# Altium footprint library APB3025ESGC-F01.PcbLib: 1 footprints
Each footprint in its own frame and in the unit in brackets; x right, y up, seen from the top. Pads: shape width x height; smd on the part's side, far side on the other; paste and mask are expansions set on the pad; w line width, h text height; cw(c..) or ccw(c..) is an arc to the next point about the centre after c.
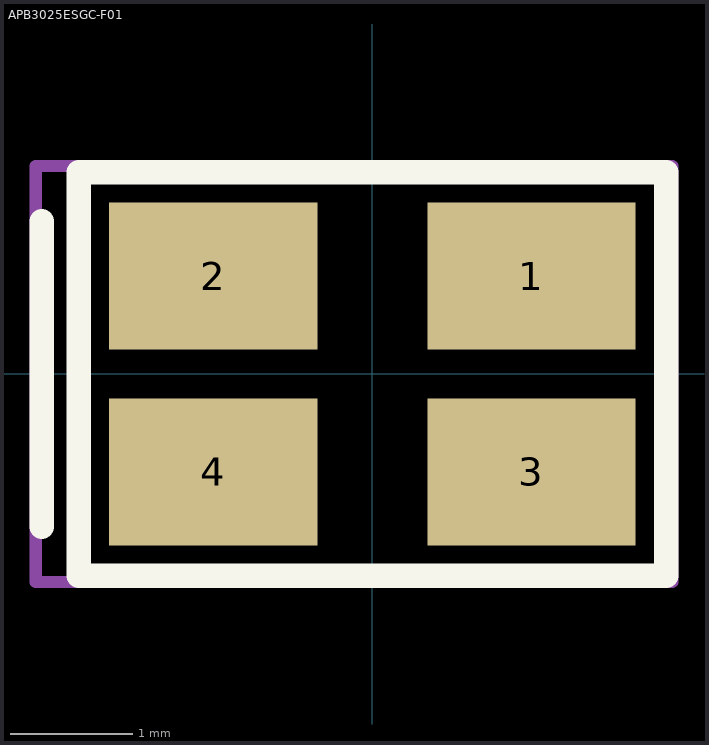
[diagram p0: the footprint, top view; thin cyan lines are the x and y axes]

## APB3025ESGC-F01 [mm]
pads (4):
  rect 1.7x1.2 smd: 1(1.3,0.8) 2(-1.3,0.8) 3(1.3,-0.8) 4(-1.3,-0.8)
Top Overlay:
  lines w0.2: -2.7,-1.25 -2.7,1.25 ; -2.4,-1.65 2.4,-1.65 2.4,1.65 -2.4,1.65 -2.4,-1.65
Top Courtyard:
  lines w0.1: -2.75,-1.7 2.45,-1.7 2.45,1.7 -2.75,1.7 -2.75,-1.7
3D body "APB3025.STEP": height 0.85, standoff -0.25, extent -1.5,-1.25 1.5,1.25